# EAGLE library part 74LCX04 (library ICs)
Hex Inverter
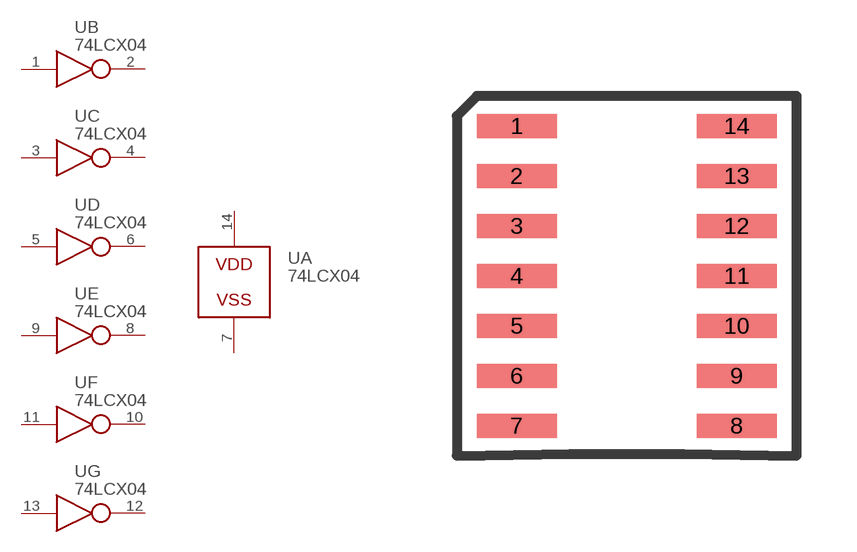
[diagram p15: symbol with the pads of SO14; footprint SO14]

Designator prefix U; gates A=PWR B=NOT C=NOT D=NOT E=NOT F=NOT G=NOT

## 74LCX04 (FARNELL: 1013773)  [SO14]
1  B:I
2  B:O
3  C:I
4  C:O
5  D:I
6  D:O
7  A:GND
8  E:O
9  E:I
10  F:O
11  F:I
12  G:O
13  G:I
14  A:V+

## Footprint SO14 (pad centres in mm)
smd 2 x 0.6: 1 -2.75,3.75; 2 -2.75,2.5; 3 -2.75,1.25; 4 -2.75,0; 5 -2.75,-1.25; 6 -2.75,-2.5; 7 -2.75,-3.75; 8 2.75,-3.75; 9 2.75,-2.5; 10 2.75,-1.25; 11 2.75,0; 12 2.75,1.25; 13 2.75,2.5; 14 2.75,3.75